# EAGLE library part I__BTS7930B (library ..SMD)
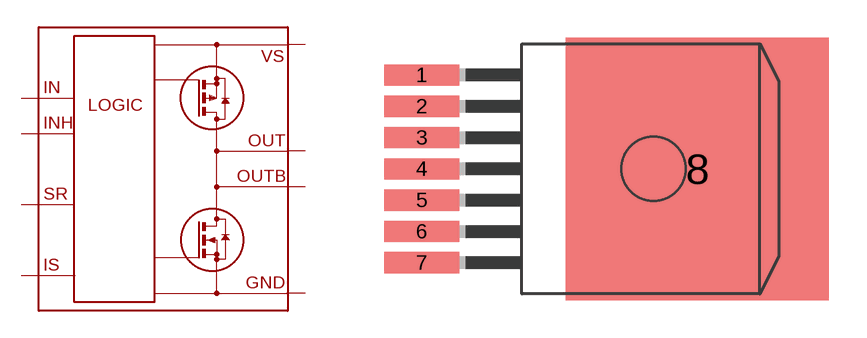
[diagram p2: symbol with the pads of BTS7930B; footprint BTS7930B]

Designator prefix I

## I__BTS7930B  [BTS7930B]
1  GND  pwr
2  IN  in
3  INH  in
4  OUT  out
5  SR  in
6  IS  in
7  VS  pwr
8  OUTB  out

## Footprint BTS7930B (pad centres in mm)
smd 3 x 0.85: 1 0,3.75; 2 0,2.5; 3 0,1.25; 4 0,0; 5 0,-1.25; 6 0,-2.5; 7 0,-3.75
smd 10.5 x 10.5: 8 11,0